# EAGLE library part LCD-S401C39TR (library lec-buzzer_alt)
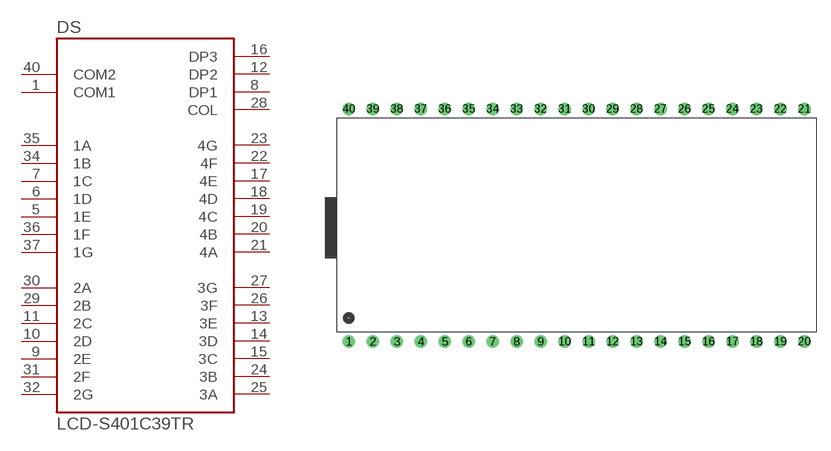
[diagram p4: symbol with the pads of S401C39TR; footprint S401C39TR]

Designator prefix DS

## LCD-S401C39TR  [S401C39TR]
1  COM1
5  1E
6  1D
7  1C
8  DP1
9  2E
10  2D
11  2C
12  DP2
13  3E
14  3D
15  3C
16  DP3
17  4E
18  4D
19  4C
20  4B
21  4A
22  4F
23  4G
24  3B
25  3A
26  3F
27  3G
28  COL
29  2B
30  2A
31  2F
32  2G
34  1B
35  1A
36  1F
37  1G
40  COM2

## Footprint S401C39TR (pad centres in mm)
drill 0.8: 1 -24,-12.5; 2 -21.46,-12.5; 3 -18.92,-12.5; 4 -16.38,-12.5; 5 -13.84,-12.5; 6 -11.3,-12.5; 7 -8.76,-12.5; 8 -6.22,-12.5; 9 -3.68,-12.5; 10 -1.14,-12.5; 11 1.4,-12.5; 12 3.94,-12.5; 13 6.48,-12.5; 14 9.02,-12.5; 15 11.56,-12.5; 16 14.1,-12.5; 17 16.64,-12.5; 18 19.18,-12.5; 19 21.72,-12.5; 20 24.26,-12.5; 21 24.26,12.138; 22 21.72,12.138; 23 19.18,12.138; 24 16.64,12.138; 25 14.1,12.138; 26 11.56,12.138; 27 9.02,12.138; 28 6.48,12.138; 29 3.94,12.138; 30 1.4,12.138; 31 -1.14,12.138; 32 -3.68,12.138; 33 -6.22,12.138; 34 -8.76,12.138; 35 -11.3,12.138; 36 -13.84,12.138; 37 -16.38,12.138; 38 -18.92,12.138; 39 -21.46,12.138; 40 -24,12.138